# Altium footprint library MY_PCBLIB.PcbLib: 15 footprints
Each footprint in its own frame and in the unit in brackets; x right, y up, seen from the top. Pads: shape width x height; smd on the part's side, far side on the other; paste and mask are expansions set on the pad; w line width, h text height; cw(c..) or ccw(c..) is an arc to the next point about the centre after c.
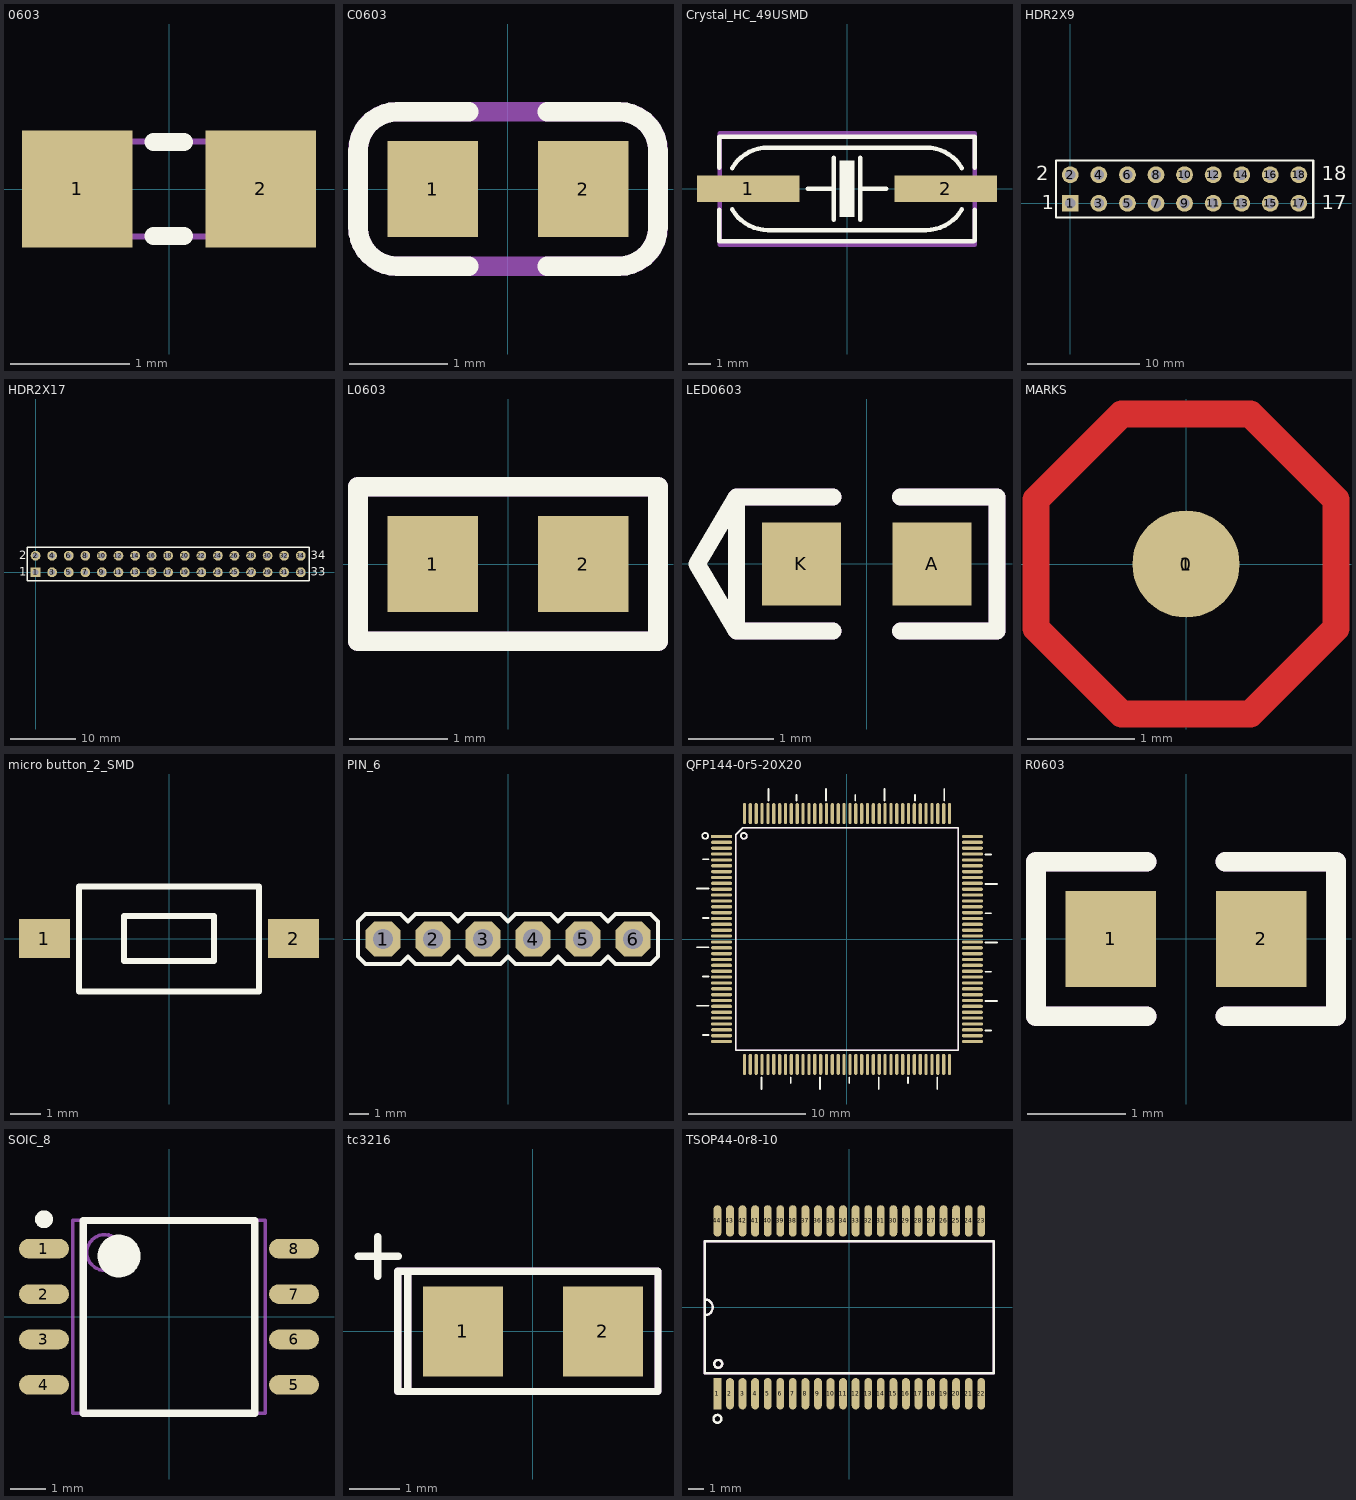
[diagram p0: the footprints below, top view; thin cyan lines are the x and y axes]

## 0603 [mm]
pads (2):
  rect 0.93x0.98 smd: 1(-0.77,0) 2(0.77,0)
Top Overlay:
  lines w0.152: -0.128,-0.395 0.126,-0.395 ; -0.128,0.395 0.126,0.395
Mechanical 13:
  lines w0.05: -0.8,-0.4 0.8,-0.4 0.8,0.4 -0.8,0.4 -0.8,-0.4

## C0603 [mm]
pads (2):
  rect 0.93x0.98 smd: 1(-0.77,0) 2(0.77,0)
Top Overlay:
  lines w0.2: -0.4,-0.79 -1.135,-0.79 cw(c-1.135,-0.39) -1.535,-0.39 -1.535,0.39 cw(c-1.135,0.39) -1.135,0.79 -0.4,0.79 ; 0.4,-0.79 1.135,-0.79 ccw(c1.135,-0.39) 1.535,-0.39 1.535,0.39 ccw(c1.135,0.39) 1.135,0.79 0.4,0.79
Mechanical 25:
  lines w0.2: -1.135,-0.79 cw(c-1.135,-0.39) -1.535,-0.39 -1.535,0.39 cw(c-1.135,0.39) -1.135,0.79 1.135,0.79 cw(c1.135,0.39) 1.535,0.39 1.535,-0.39 cw(c1.135,-0.39) 1.135,-0.79 0.4,-0.79 -1.135,-0.79 ; -1.135,-0.79 ccw(c-1.135,-0.79) -1.135,-0.79
  text ".designator" at -2.413,-0.254 h0.76
3D body "User Library-0603 SMD Capacitor.STEP": height 0.3, standoff 0, extent -0.8,-0.4 0.8,0.4

## Crystal_HC_49USMD [mm]
pads (2):
  rect 4.6x1.2 smd: 1(-4.428,0) 2(4.428,0)
Top Overlay:
  rectangle: -0.33,-1.27 0.33,1.27
  lines w0.2: -5.72,-2.36 5.68,-2.36 ; -5.72,-2.34 -5.72,-0.94 ; -5.72,0.94 -5.72,2.34 5.68,2.34 ; -5.152,-0.925 ccw(c-3.55,0) -3.55,-1.85 3.55,-1.85 ccw(c3.55,0) 5.152,-0.925 ; -5.152,0.925 cw(c-3.55,0) -3.55,1.85 3.55,1.85 cw(c3.55,0) 5.152,0.925 ; -1.753,0 -0.584,0 ; -0.584,-1.397 -0.584,1.397 ; 0.584,-1.397 0.584,1.397 ; 0.584,0 1.753,0 ; 5.72,-2.34 5.72,-0.94 ; 5.72,0.94 5.72,2.34
Mechanical 25:
  lines w0.2: -5.715,-2.51 -5.715,2.49 5.72,2.49 5.72,-2.51 -5.715,-2.51
  text ".designator" at -2.413,-0.254 h0.76
3D body "CRYSTAl HC_49USMD.STEP": height 2.81, standoff 0.01, extent -6.1,-2.4 6.1,2.4

## HDR2X9 [mm] "Connector; Header; 9x2 Position"
height 1.2
pads (18):
  rect 1.5x1.5 hole 0.9: 1(0,0)
  round 1.5 hole 0.9: 2(0,2.54) 3(2.54,0) 4(2.54,2.54) 5(5.08,0) 6(5.08,2.54) 7(7.62,0) 8(7.62,2.54) 9(10.16,0) 10(10.16,2.54) 11(12.7,0) 12(12.7,2.54) 13(15.24,0) 14(15.24,2.54) 15(17.78,0) 16(17.78,2.54) 17(20.32,0) 18(20.32,2.54)
Top Overlay:
  lines w0.2: -1.27,-1.27 21.59,-1.27 21.59,3.81 -1.27,3.81 -1.27,-1.27
  text "18" at 22.352,2.032 h1.27
  text "17" at 22.352,-0.508 h1.27
  text "1" at -2.54,-0.508 h1.27
  text "2" at -3.048,2.032 h1.27

## HDR2X17 [mm] "Connector; Header; 15x2 Position"
height 1.2
pads (34):
  rect 1.5x1.5 hole 0.9: 1(0,0)
  round 1.5 hole 0.9: 2(0,2.54) 3(2.54,0) 4(2.54,2.54) 5(5.08,0) 6(5.08,2.54) 7(7.62,0) 8(7.62,2.54) 9(10.16,0) 10(10.16,2.54) 11(12.7,0) 12(12.7,2.54) 13(15.24,0) 14(15.24,2.54) 15(17.78,0) 16(17.78,2.54) 17(20.32,0) 18(20.32,2.54) 19(22.86,0) 20(22.86,2.54) 21(25.4,0) 22(25.4,2.54) 23(27.94,0) 24(27.94,2.54) 25(30.48,0) 26(30.48,2.54) 27(33.02,0) 28(33.02,2.54) 29(35.56,0) 30(35.56,2.54) 31(38.1,0) 32(38.1,2.54) 33(40.64,0) 34(40.64,2.54)
Top Overlay:
  lines w0.2: -1.27,-1.27 -1.27,3.81 41.91,3.81 41.91,-1.27 -1.27,-1.27
  text "34" at 42.164,2.032 h1.27
  text "33" at 42.164,-0.508 h1.27
  text "2" at -2.54,2.032 h1.27
  text "1" at -2.54,-0.508 h1.27

## L0603 [mm]
pads (2):
  rect 0.93x0.98 smd: 1(-0.77,0) 2(0.77,0)
Top Overlay:
  lines w0.2: -1.535,-0.79 -1.535,0.79 1.535,0.79 1.535,-0.79 -1.535,-0.79
Mechanical 25:
  lines w0.2: -1.535,-0.79 -1.535,0.79 1.535,0.79 1.535,-0.79 -1.535,-0.79
  text ".designator" at -2.794,-0.254 h0.76
3D body "L0603.STEP": height 0.46, standoff -0.01, extent -0.825,-0.412 0.825,0.413

## LED0603 [mm]
pads (2):
  rect 0.93x0.98 smd: A(0.77,0) K(-0.77,0)
Top Overlay:
  lines w0.2: -0.4,-0.79 -1.535,-0.79 ; -0.4,0.79 -1.535,0.79 ; 0.4,-0.79 1.535,-0.79 1.535,0.79 0.4,0.79 ; -1.535,-0.79 -1.535,0.79 ; -1.535,-0.79 -2,0 -1.535,0.79
Mechanical 25:
  lines w0.2: -0.4,-0.79 -1.535,-0.79 -1.535,0.79 -0.4,0.79 ; 0.4,-0.79 1.535,-0.79 1.535,0.79 0.4,0.79
  text ".designator" at -2.413,-0.254 h0.76
3D body "User Library-LED_0603_R.STEP": height 0.6, standoff 0, extent -0.8,-0.4 0.8,0.4

## MARKS [mm]
pads (2):
  round 2 on Top Solder: 0(0,0)
  round 1 smd: 1(0,0)
Top Layer:
  lines w0.254: -1.4,-0.6 -0.6,-1.4 0.6,-1.4 1.4,-0.6 1.4,0.6 0.6,1.4 0.4,1.4 -0.4,1.4 -0.6,1.4 -1.4,0.6 -1.4,-0.6

## micro button_2_SMD [mm]
height 1.2
pads (2):
  rect 1.7x1.3 smd: 1(-4.15,0) 2(4.15,0)
Top Overlay:
  lines w0.2: -3,-1.76 3,-1.76 3,1.74 -3,1.74 -3,-1.76 ; -1.495,-0.75 -1.495,0.75 1.505,0.75 1.505,-0.75 -1.495,-0.75
3D body "Micro Button_2_SMD.STEP": height 4.51, standoff 0.01, extent -4.5,-1.75 4.5,1.75

## PIN_6 [mm]
pads (6):
  oct 1.8x1.8 hole 1: 1(-6.35,0) 2(-3.81,0) 3(-1.27,0) 4(1.27,0) 5(3.81,0) 6(6.35,0)
Top Overlay:
  lines w0.2: -7.62,-0.889 -7.62,0.889 -7.239,1.27 -5.461,1.27 -5.08,0.889 -4.699,1.27 -2.921,1.27 -2.54,0.889 -2.159,1.27 -0.381,1.27 0,0.889 0.381,1.27 2.159,1.27 2.54,0.889 2.921,1.27 4.699,1.27 5.08,0.889 5.461,1.27 7.239,1.27 7.62,0.889 7.62,-0.889 7.239,-1.27 5.461,-1.27 5.08,-0.889 4.699,-1.27 2.921,-1.27 2.54,-0.889 2.159,-1.27 0.381,-1.27 0,-0.889 -0.381,-1.27 -2.159,-1.27 -2.54,-0.889 -2.921,-1.27 -4.699,-1.27 -5.08,-0.889 -5.461,-1.27 -7.239,-1.27 -7.62,-0.889
3D body "PIN_1.STEP": height 8.51, standoff -2.99, extent 5.08,-1.27 7.62,1.27
3D body "PIN_1.STEP": height 8.51, standoff -2.99, extent 2.54,-1.27 5.08,1.27
3D body "PIN_1.STEP": height 8.51, standoff -2.99, extent 0,-1.27 2.54,1.27
3D body "PIN_1.STEP": height 8.51, standoff -2.99, extent -2.54,-1.27 0,1.27
3D body "PIN_1.STEP": height 8.51, standoff -2.99, extent -5.08,-1.27 -2.54,1.27
3D body "PIN_1.STEP": height 8.51, standoff -2.99, extent -7.62,-1.27 -5.08,1.27

## QFP144-0r5-20X20 [mm]
pads (144):
  rect 1.8x0.28 smd: 1(-10.7,8.75)
  oval 1.8x0.28 smd: 2(-10.7,8.25) 3(-10.7,7.75) 4(-10.7,7.25) 5(-10.7,6.75) 6(-10.7,6.25) 7(-10.7,5.75) 8(-10.7,5.25) 9(-10.7,4.75) 10(-10.7,4.25) 11(-10.7,3.75) 12(-10.7,3.25) 13(-10.7,2.75) 14(-10.7,2.25) 15(-10.7,1.75) 16(-10.7,1.25) 17(-10.7,0.75) 18(-10.7,0.25) 19(-10.7,-0.25) 20(-10.7,-0.75) 21(-10.7,-1.25) 22(-10.7,-1.75) 23(-10.7,-2.25) 24(-10.7,-2.75) 25(-10.7,-3.25) 26(-10.7,-3.75) 27(-10.7,-4.25) 28(-10.7,-4.75) 29(-10.7,-5.25) 30(-10.7,-5.75) 31(-10.7,-6.25) 32(-10.7,-6.75) 33(-10.7,-7.25) 34(-10.7,-7.75) 35(-10.7,-8.25) 36(-10.7,-8.75) 73(10.7,-8.75) 74(10.7,-8.25) 75(10.7,-7.75) 76(10.7,-7.25) 77(10.7,-6.75) 78(10.7,-6.25) 79(10.7,-5.75) 80(10.7,-5.25) 81(10.7,-4.75) 82(10.7,-4.25) 83(10.7,-3.75) 84(10.7,-3.25) 85(10.7,-2.75) 86(10.7,-2.25) 87(10.7,-1.75) 88(10.7,-1.25) 89(10.7,-0.75) 90(10.7,-0.25) 91(10.7,0.25) 92(10.7,0.75) 93(10.7,1.25) 94(10.7,1.75) 95(10.7,2.25) 96(10.7,2.75) 97(10.7,3.25) 98(10.7,3.75) 99(10.7,4.25) 100(10.7,4.75) 101(10.7,5.25) 102(10.7,5.75) 103(10.7,6.25) 104(10.7,6.75) 105(10.7,7.25) 106(10.7,7.75) 107(10.7,8.25) 108(10.7,8.75)
  oval 0.28x1.8 smd: 37(-8.75,-10.7) 38(-8.25,-10.7) 39(-7.75,-10.7) 40(-7.25,-10.7) 41(-6.75,-10.7) 42(-6.25,-10.7) 43(-5.75,-10.7) 44(-5.25,-10.7) 45(-4.75,-10.7) 46(-4.25,-10.7) 47(-3.75,-10.7) 48(-3.25,-10.7) 49(-2.75,-10.7) 50(-2.25,-10.7) 51(-1.75,-10.7) 52(-1.25,-10.7) 53(-0.75,-10.7) 54(-0.25,-10.7) 55(0.25,-10.7) 56(0.75,-10.7) 57(1.25,-10.7) 58(1.75,-10.7) 59(2.25,-10.7) 60(2.75,-10.7) 61(3.25,-10.7) 62(3.75,-10.7) 63(4.25,-10.7) 64(4.75,-10.7) 65(5.25,-10.7) 66(5.75,-10.7) 67(6.25,-10.7) 68(6.75,-10.7) 69(7.25,-10.7) 70(7.75,-10.7) 71(8.25,-10.7) 72(8.75,-10.7) 109(8.75,10.7) 110(8.25,10.7) 111(7.75,10.7) 112(7.25,10.7) 113(6.75,10.7) 114(6.25,10.7) 115(5.75,10.7) 116(5.25,10.7) 117(4.75,10.7) 118(4.25,10.7) 119(3.75,10.7) 120(3.25,10.7) 121(2.75,10.7) 122(2.25,10.7) 123(1.75,10.7) 124(1.25,10.7) 125(0.75,10.7) 126(0.25,10.7) 127(-0.25,10.7) 128(-0.75,10.7) 129(-1.25,10.7) 130(-1.75,10.7) 131(-2.25,10.7) 132(-2.75,10.7) 133(-3.25,10.7) 134(-3.75,10.7) 135(-4.25,10.7) 136(-4.75,10.7) 137(-5.25,10.7) 138(-5.75,10.7) 139(-6.25,10.7) 140(-6.75,10.7) 141(-7.25,10.7) 142(-7.75,10.7) 143(-8.25,10.7) 144(-8.75,10.7)
Top Overlay:
  circle w0.15: c-12.1,8.8 r0.25
  circle w0.15: c-8.8,8.8 r0.25
  lines w0.15: -12.8,-5.7 -11.8,-5.7 ; -12.8,-0.7 -11.8,-0.7 ; -12.8,4.3 -11.8,4.3 ; -12.3,-8.2 -11.8,-8.2 ; -12.3,-3.2 -11.8,-3.2 ; -12.3,1.8 -11.8,1.8 ; -12.3,6.8 -11.8,6.8 ; -7.3,-12.8 -7.3,-11.8 ; -6.7,11.8 -6.7,12.8 ; -4.8,-12.3 -4.8,-11.8 ; -4.3,11.8 -4.3,12.3 ; -2.3,-12.8 -2.3,-11.8 ; -1.8,11.8 -1.8,12.8 ; 0.2,-12.3 0.2,-11.8 ; 0.7,11.8 0.7,12.3 ; 2.7,-12.8 2.7,-11.8 ; 3.2,11.8 3.2,12.8 ; 5.2,-12.3 5.2,-11.8 ; 5.8,11.8 5.8,12.3 ; 7.7,-12.8 7.7,-11.8 ; 8.3,11.8 8.3,12.8 ; 11.8,-7.8 12.3,-7.8 ; 11.8,-5.3 12.8,-5.3 ; 11.8,-2.8 12.3,-2.8 ; 11.8,-0.3 12.8,-0.3 ; 11.8,2.2 12.3,2.2 ; 11.8,4.7 12.8,4.7 ; 11.8,7.2 12.3,7.2 ; -9.5,-9.5 9.5,-9.5 9.5,9.5 -8.9,9.5 -9.5,8.9 -9.5,-9.5
Mechanical 25:
  circle w0.15: c-8.8,8.8 r0.25
  lines w0.15: -9.5,-9.5 -9.5,8.9 -8.9,9.5 9.5,9.5 9.5,-9.5 -9.5,-9.5
  text ".designator" at -2.413,-0.254 h0.76
3D body "LQFP_144.STEP": height 1.55, standoff 0, extent -11.003,-11.003 11.003,11.003
3D body "LQFP_144.STEP": height 1.55, standoff 0, extent -11.003,-11.003 11.003,11.003

## R0603 [mm]
pads (2):
  rect 0.93x0.98 smd: 1(-0.77,0) 2(0.77,0)
Top Overlay:
  lines w0.2: -0.4,-0.79 -1.535,-0.79 -1.535,0.79 -0.4,0.79 ; 0.4,-0.79 1.535,-0.79 1.535,0.79 0.4,0.79
Mechanical 25:
  lines w0.2: -0.4,-0.79 -1.535,-0.79 -1.535,0.79 -0.4,0.79 ; 0.4,-0.79 1.535,-0.79 1.535,0.79 0.4,0.79
  text ".designator" at -2.413,-0.254 h0.76
3D body "User Library-RES_1609-0603.STEP": height 0.56, standoff 0, extent -0.85,-0.4 0.85,0.4

## SOIC_8 [mm] "SOIC, 8-Leads, Body 5.28x5.28mm, Pitch 1.27mm, IPC High Density"
height 2.16
pads (8):
  oval 1.4x0.55 smd: 1(-3.5,1.905) 2(-3.5,0.635) 3(-3.5,-0.635) 4(-3.5,-1.905) 5(3.5,-1.905) 6(3.5,-0.635) 7(3.5,0.635) 8(3.5,1.905)
Top Overlay:
  circle w0.25: c-3.5,2.73 r0.125
  circle w0.6: c-1.4,1.7 r0.3
  lines w0.2: -2.4,-2.7 -2.4,2.7 2.4,2.7 2.4,-2.7 -2.4,-2.7
Mechanical 25:
  circle w0.1: c-1.8,1.8 r0.5
  lines w0.1: -2.7,-2.7 2.7,-2.7 2.7,2.7 -2.7,2.7 -2.7,-2.7
  text ".designator" at -2.413,-0.254 h0.76
3D body "SOIC127P790X216-8L.step": height 2.16, standoff 0, extent -3.95,-2.7 3.95,2.7

## tc3216 [mm]
pads (2):
  rect 1.6x1.8 smd: 1(-1.4,0) 2(1.4,0)
Top Overlay:
  lines w0.15: -3.5,1.5 -2.7,1.5 ; -3.1,1.1 -3.1,1.9 ; -2.5,-1.2 1.2,-1.2 2.5,-1.2 2.5,1.2 -1.1,1.2 -2.5,1.2 ; -2.5,-1.2 -2.5,1.2 ; -2.5,-1.2 -2.7,-1.2 -2.7,1.2 -2.5,1.2
Mechanical 25:
  lines w0.15: -2.5,-1.2 -2.7,-1.2 -2.7,1.2 -2.5,1.2 ; -2.5,-1.2 -2.5,1.2 ; -2.5,-1.2 1.2,-1.2 2.5,-1.2 2.5,1.2 -1.1,1.2 -2.5,1.2
  text ".designator" at -2.413,-0.254 h0.76
3D body "TAC_3216.STEP": height 1.6, standoff 0, extent -1.75,-0.8 1.75,0.8

## TSOP44-0r8-10 [mm]
pads (44):
  rect 0.5x2 smd: 1(-8.4,-5.5)
  oval 0.5x2 smd: 2(-7.6,-5.5) 3(-6.8,-5.5) 4(-6,-5.5) 5(-5.2,-5.5) 6(-4.4,-5.5) 7(-3.6,-5.5) 8(-2.8,-5.5) 9(-2,-5.5) 10(-1.2,-5.5) 11(-0.4,-5.5) 12(0.4,-5.5) 13(1.2,-5.5) 14(2,-5.5) 15(2.8,-5.5) 16(3.6,-5.5) 17(4.4,-5.5) 18(5.2,-5.5) 19(6,-5.5) 20(6.8,-5.5) 21(7.6,-5.5) 22(8.4,-5.5) 23(8.4,5.5) 24(7.6,5.5) 25(6.8,5.5) 26(6,5.5) 27(5.2,5.5) 28(4.4,5.5) 29(3.6,5.5) 30(2.8,5.5) 31(2,5.5) 32(1.2,5.5) 33(0.4,5.5) 34(-0.4,5.5) 35(-1.2,5.5) 36(-2,5.5) 37(-2.8,5.5) 38(-3.6,5.5) 39(-4.4,5.5) 40(-5.2,5.5) 41(-6,5.5) 42(-6.8,5.5) 43(-7.6,5.5) 44(-8.4,5.5)
Top Overlay:
  circle w0.15: c-8.4,-7.1 r0.25
  circle w0.15: c-8.35,-3.6 r0.25
  lines w0.15: -9.2,-0.5 ccw(c-9.2,0) -9.2,0.5 ; -9.2,-4.2 -9.2,4.2 9.2,4.2 9.2,-4.2 -9.2,-4.2
Mechanical 25:
  circle w0.15: c-8.35,-3.6 r0.25
  lines w0.15: -9.2,-0.5 ccw(c-9.2,0) -9.2,0.5 ; -9.2,-4.2 9.2,-4.2 9.2,4.2 -9.2,4.2 -9.2,-4.2
  text ".designator" at -2.413,-0.254 h0.76
3D body "TSOP_44.STEP": height 1.24, standoff 0, extent -9.208,-5.887 9.207,5.887